# EAGLE library part 74LVXC3245MTCX (library 0_MyLIB)
LVXC3245 is a 24 pin dual supply, 8 bit configurable voltage interface transceiver. The VCCA pin accepts a 3.3V supply level. VCCB accepts a 3V-to-5V supply level and the B port high output tracks the VCCB voltage. OE' allows to port B to float when OE' is high. T/R' controls the data direction when: Low - Bus B Data to Bus A High - Bus A Data to Bus B
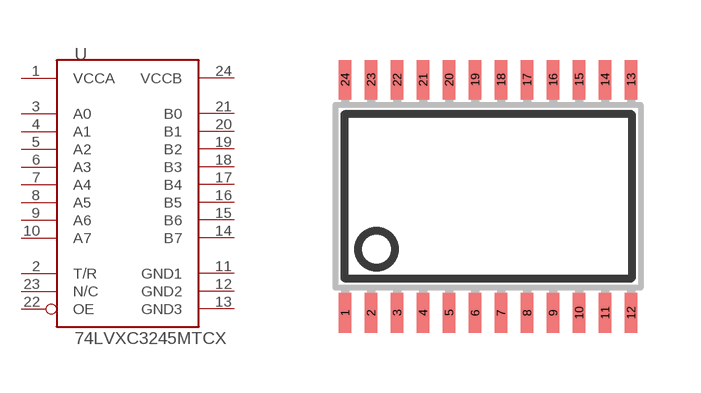
[diagram p0: symbol with the pads of TSSOP24; footprint TSSOP24]

Designator prefix U

## 74LVXC3245MTCX  [TSSOP24]
1  VCCA  pwr
2  T/R  in
3  A0
4  A1
5  A2
6  A3
7  A4
8  A5
9  A6
10  A7
11  GND1  pwr
12  GND2  pwr
13  GND3  pwr
14  B7
15  B6
16  B5
17  B4
18  B3
19  B2
20  B1
21  B0
22  OE  in
23  N/C  nc
24  VCCB  pwr

## Footprint TSSOP24 (pad centres in mm)
Thin Shrink Small Outline Plastic 24 MAX3223-MAX3243.pdf
smd 0.305 x 0.991: 1 -3.575,-2.918; 2 -2.925,-2.918; 3 -2.275,-2.918; 4 -1.625,-2.918; 5 -0.975,-2.918; 6 -0.325,-2.918; 7 0.325,-2.918; 8 0.975,-2.918; 9 1.625,-2.918; 10 2.275,-2.918; 11 2.925,-2.918; 12 3.575,-2.918; 13 3.575,2.918; 14 2.925,2.918; 15 2.275,2.918; 16 1.625,2.918; 17 0.975,2.918; 18 0.325,2.918; 19 -0.325,2.918; 20 -0.975,2.918; 21 -1.625,2.918; 22 -2.275,2.918; 23 -2.925,2.918; 24 -3.575,2.918